# Altium integrated library INA180A1IDBVR.IntLib: 1 symbol
Pins are listed as number, name and electrical type; pins without a type are passive.

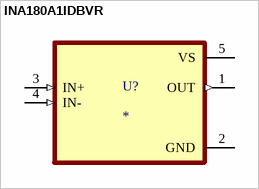
[diagram p0: symbol INA180A1IDBVR]

## INA180A1IDBVR
designator U?
26V, 350kHz current sense amplifier; MF: Texas Instruments; MP: INA180A1IDBVR; SnapEDA_Link: https://www.snapeda.com/parts/INA180A1IDBVR/Texas+Instruments/view-part/?ref=snap; Package: SOT-23-5 Texas Instruments; Value: *; Check_prices: https://www.snapeda.com/parts/INA180A1IDBVR/Texas+Instruments/view-part/?ref=eda
footprint SOT95P280X145-5N
pins: 1 OUT (out), 2 GND (power), 3 IN+ (in), 4 IN- (in), 5 VS (power)